# Altium footprint library sm_inductor.PcbLib: 20 footprints (part 2 of 2)
Each footprint in its own frame and in the unit in brackets; x right, y up, seen from the top. Pads: shape width x height; smd on the part's side, far side on the other; paste and mask are expansions set on the pad; w line width, h text height; cw(c..) or ccw(c..) is an arc to the next point about the centre after c.
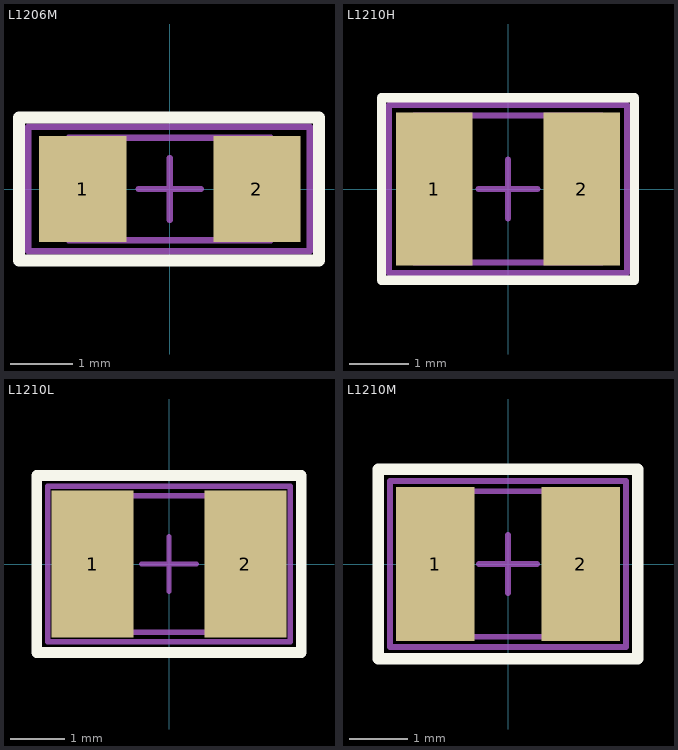
[diagram p1: the footprints below, top view; thin cyan lines are the x and y axes]

## L1206M [mm] "Chip Inductor 2-Leads, Body 3.2x1.6mm, IPC Medium Density"
height 0.9
pads (2):
  rect 1.4x1.7 smd: 1(-1.4,0) 2(1.4,0)
Top Overlay:
  lines w0.2: -2.425,-1.15 2.4,-1.15 2.4,1.15 -2.425,1.15 -2.425,-1.15
Mechanical 13:
  lines w0.1: -0.5,0 0.5,0 ; 0,-0.5 0,0.5 ; -1.625,-0.825 -1.625,0.825 1.625,0.825 1.625,-0.825 -1.625,-0.825
Mechanical 15:
  lines w0.1: -2.275,-1 2.25,-1 2.25,1 -2.275,1 -2.275,-1
  text ".Designator" at -1.1,-0.225 h0.5
3D body: height 0.8, standoff 0, extent 1.1,-0.8 1.6,0.8
3D body: height 0.8, standoff 0, extent -1.6,-0.8 -1.1,0.8
3D body: height 0.8, standoff 0, extent -1.1,-0.8 1.1,0.8

## L1210H [mm] "Wire Wound Inductor, 2-Leads, Body 3.2x2.5mm, High Density"
height 1.55
pads (2):
  rect 1.3x2.6 smd: 1(-1.25,0) 2(1.25,0)
Top Overlay:
  lines w0.16: -2.15,-1.55 -2.15,1.55 2.15,1.55 2.15,-1.55 -2.15,-1.55
Mechanical 13:
  lines w0.1: -0.5,0 0.5,0 ; 0,-0.5 0,0.5 ; -1.6,-1.25 1.6,-1.25 1.6,1.25 -1.6,1.25 -1.6,-1.25
Mechanical 15:
  lines w0.1: -2.025,-1.425 2.025,-1.425 2.025,1.425 -2.025,1.425 -2.025,-1.425
  text ".Designator" at 0.1,-1.375 h0.5
3D body: height 1.15, standoff 0.4, extent -0.992,-0.998 1,0.998
3D body: height 1.55, standoff 1.15, extent -1.25,-1.25 1.25,1.25
3D body: height 0.4, standoff 0, extent -1.6,-1.25 1.6,1.25

## L1210L [mm] "Wire Wound Inductor, 2-Leads, Body 3.2x2.5mm, Low Density"
height 1.55
pads (2):
  rect 1.5x2.7 smd: 1(-1.4,0) 2(1.4,0)
Top Overlay:
  lines w0.2: -2.425,-1.625 -2.425,1.625 2.425,1.625 2.425,-1.625 -2.425,-1.625
Mechanical 13:
  lines w0.1: -0.5,0 0.5,0 ; 0,-0.5 0,0.5 ; -1.6,-1.25 1.6,-1.25 1.6,1.25 -1.6,1.25 -1.6,-1.25
Mechanical 15:
  lines w0.1: -2.225,-1.425 2.225,-1.425 2.225,1.425 -2.225,1.425 -2.225,-1.425
  text ".Designator" at 0.1,-1.375 h0.5
3D body: height 1.15, standoff 0.4, extent -0.992,-0.998 1,0.998
3D body: height 1.55, standoff 1.15, extent -1.25,-1.25 1.25,1.25
3D body: height 0.4, standoff 0, extent -1.6,-1.25 1.6,1.25

## L1210M [mm] "Wire Wound Inductor, 2-Leads, Body 3.2x2.5mm, Medium Density"
height 1.55
pads (2):
  rect 1.35x2.65 smd: 1(-1.25,0) 2(1.25,0)
Top Overlay:
  lines w0.2: -2.225,-1.625 2.225,-1.625 2.225,1.625 -2.225,1.625 -2.225,-1.625
Mechanical 13:
  lines w0.1: -0.5,0 0.5,0 ; 0,-0.5 0,0.5 ; -1.6,-1.25 -1.6,1.25 1.6,1.25 1.6,-1.25 -1.6,-1.25
Mechanical 15:
  lines w0.1: -2.025,-1.425 -2.025,1.425 2.025,1.425 2.025,-1.425 -2.025,-1.425
  text ".Designator" at 0.1,-1.375 h0.5
3D body: height 0.4, standoff 0, extent -1.6,-1.25 1.6,1.25
3D body: height 1.55, standoff 1.15, extent -1.25,-1.25 1.25,1.25
3D body: height 1.15, standoff 0.4, extent -0.992,-0.998 1,0.998